# Altium schematic symbol library Seeeduino-XIAO-footprint-eagle.SCHLIB: 1 symbol
Pins are listed as number, name and electrical type; pins without a type are passive.

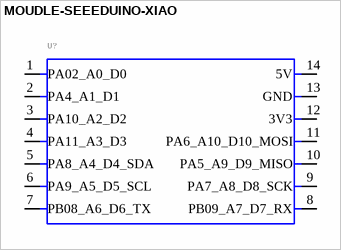
[diagram p0: symbol MOUDLE-SEEEDUINO-XIAO]

## MOUDLE-SEEEDUINO-XIAO
designator U?
GateName_1: G$1; SymbolName_1: MOUDLE-SEEEDUINO-XIAO; LibraryName: Seeeduino-XIAO-footprint-eagle; DeviceSetName: MOUDLE-SEEEDUINO-XIAO; Package: MOUDLE14P-2.54-21X17.8MM
footprint MOUDLE14P-2-54-21X17-8MM
pins: 1 PA02_A0_D0 (io), 2 PA4_A1_D1 (io), 3 PA10_A2_D2 (io), 4 PA11_A3_D3 (io), 5 PA8_A4_D4_SDA (io), 6 PA9_A5_D5_SCL (io), 7 PB08_A6_D6_TX (io), 8 PB09_A7_D7_RX (io), 9 PA7_A8_D8_SCK (io), 10 PA5_A9_D9_MISO (io), 11 PA6_A10_D10_MOSI (io), 12 3V3 (io), 13 GND (io), 14 5V (io)